# Altium schematic symbol library kmilo17pet-LT_PMIC_LT.SchLib: 2252 symbols (part 121 of 124)
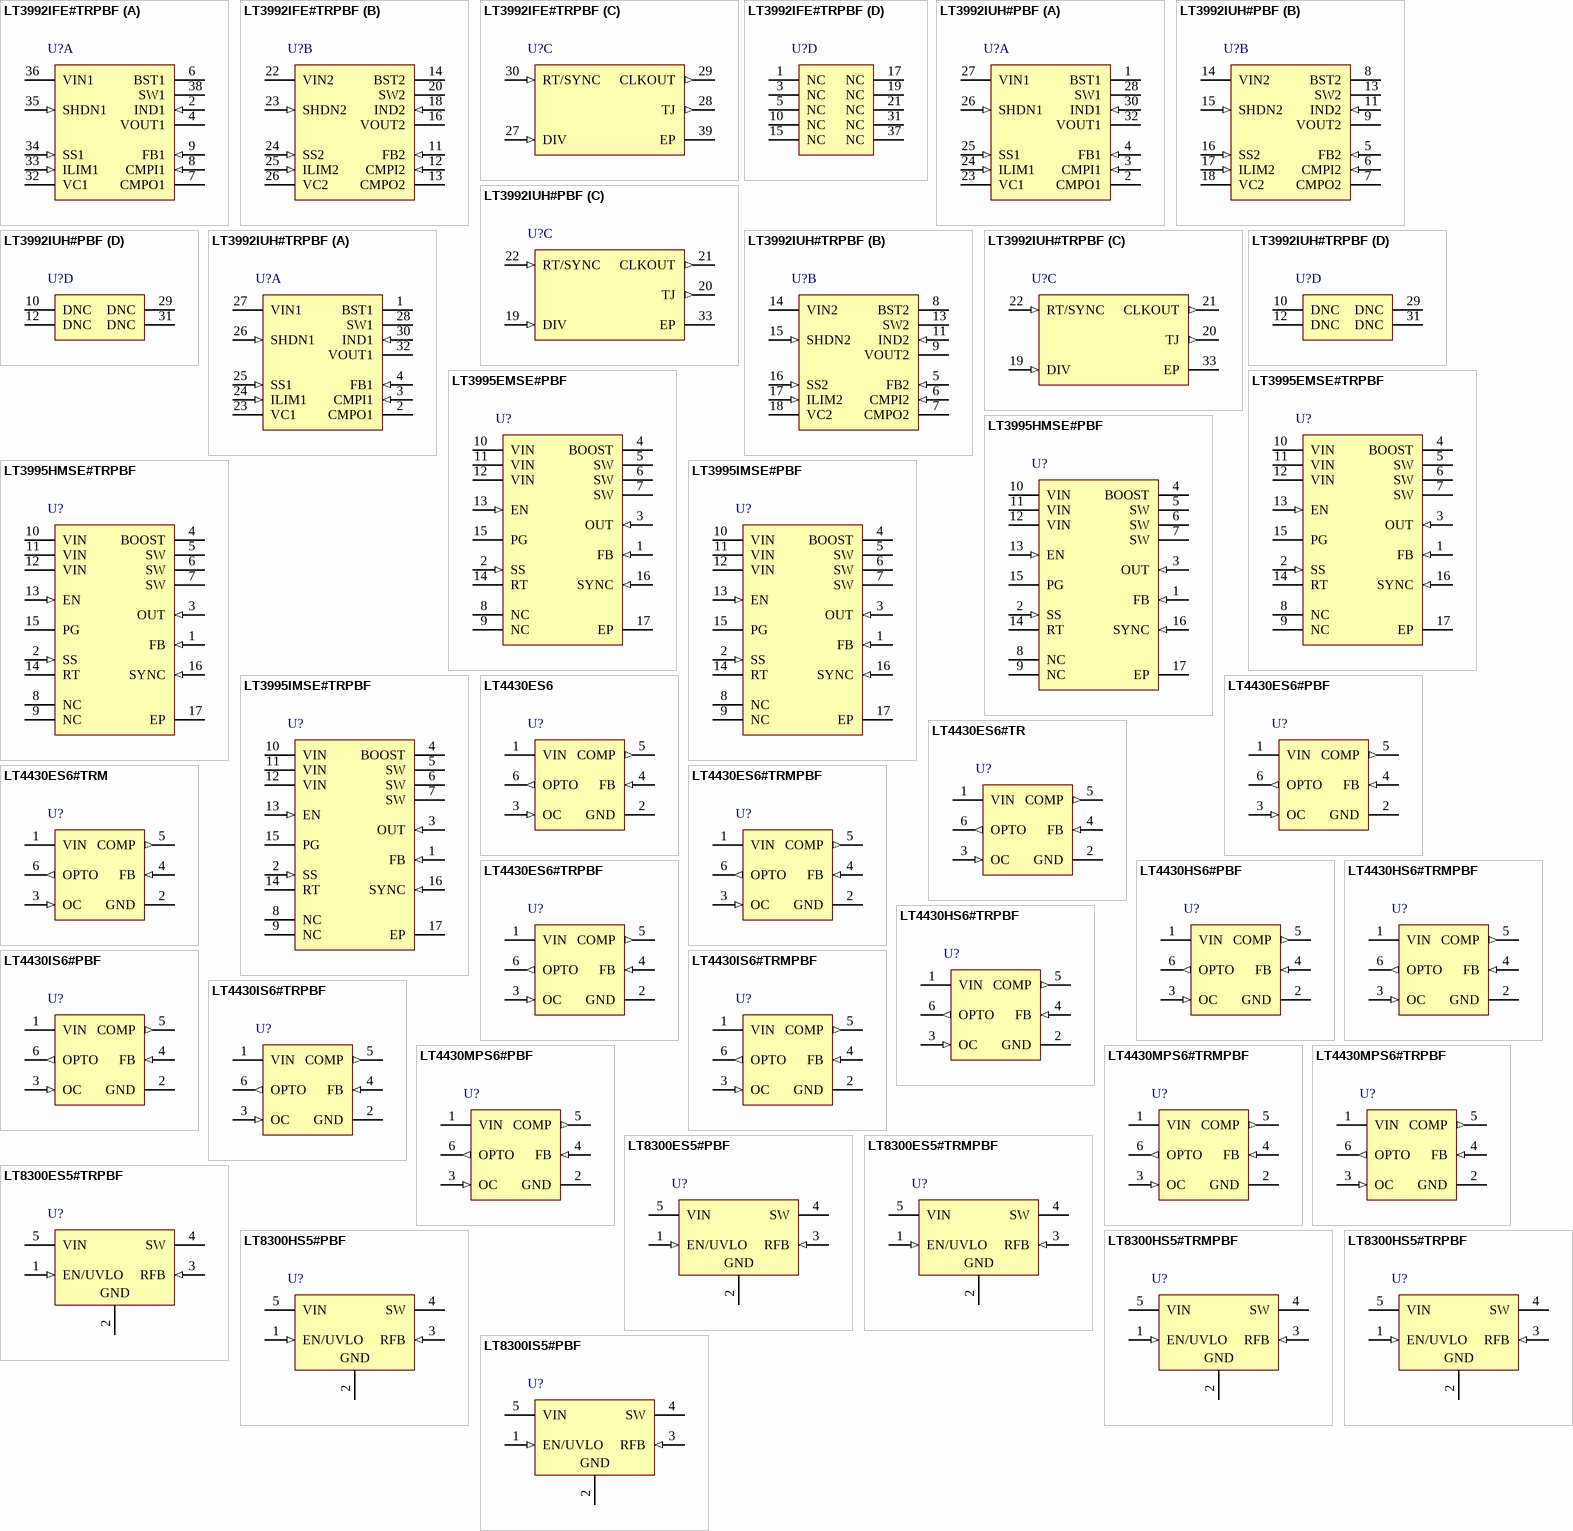
[diagram p191: symbols LT3992IFE#TRPBF to LT8300IS5#PBF]

## LT4430ES6#TRM
designator U?
Secondary-Side Optocoupler Driver, 6-pin SOT23 (S6-6), -40 to 125 degC, Mini Tape and Reel; Manufacturer: Linear Technology; PartNumber: LT4430ES6#TRM; Number of Outputs: 1; PackageReference: S6-6; PackageDescription: 6-Pin Plastic TSOT-23, Body 2.9 x 1.63 mm, Pitch 0.95 mm; RoHS: FALSE
footprint LT-S6-6-TSOT-23_N (SOT23, 6-Leads, Body 2.9x1.75mm, Pitch 0.95mm, IPC Medium Density)
footprint LT-S6-6-TSOT-23_L (SOT23, 6-Leads, Body 2.9x1.75mm, Pitch 0.95mm, IPC High Density)
footprint LT-S6-6-TSOT-23_M (SOT23, 6-Leads, Body 2.9x1.75mm, Pitch 0.95mm, IPC Low Density)
pins: 1 VIN (power) "This is the input supply that powers all internal circuitry. The input supply range is 3V minimum to 20V maximum and the typical input quiescent current is 1.9mA. Connect a 1uF bypass capacitor directly from VIN to GND.", 2 GND (power) "Analog Ground Pin. It is also the negative sense terminal for the internal 0.6V reference. Connect the external feedback divider network that terminates to ground directly to this pin for best regulation and performance.", 3 OC (in) "Overshoot Control Pin. A typical 8.5uA current source and a capacitor placed from this pin to GND controls output voltage overshoot on start-up and recovery from short-circuit. The typical ramp time is (COC ?.6V)/8.5uA(See Datasheet)", 4 FB (in) "This is the inverting input of the error amplifier. The noninverting input is tied to the internal 0.6V reference. Input bias current for this pin is typically 75nA flowing out of the pin. This pin normally ties to a (See Datasheet)", 5 COMP (out) "This is the output of the error amplifier. The error amplifier is a true voltage-mode error amplifier and frequency compensation is performed around the amplifier. Typical LT4430 compensation schemes use series R-C in (See Datasheet)", 6 OPTO (out) "This is the output of the amplifier that drives the opto-coupler. The opto driver amplifier uses an inverting gain of six configuration to drive the opto-coupler referenced to ground. Driving the opto-coupler referenced to (See Datasheet)"

## LT4430ES6#TRMPBF
designator U?
Secondary-Side Optocoupler Driver, 6-pin SOT23 (S6-6), -40 to 125 degC, Pb-Free, Mini Tape and Reel; Manufacturer: Linear Technology; PartNumber: LT4430ES6#TRMPBF; Number of Outputs: 1; PackageReference: S6-6; PackageDescription: 6-Pin Plastic TSOT-23, Body 2.9 x 1.63 mm, Pitch 0.95 mm; Supplier 1: Digi-Key; Supplier Part Number 1: LT4430ES6#TRMPBFTR-ND; RoHS: TRUE
footprint LT-S6-6-TSOT-23_N (SOT23, 6-Leads, Body 2.9x1.75mm, Pitch 0.95mm, IPC Medium Density)
footprint LT-S6-6-TSOT-23_L (SOT23, 6-Leads, Body 2.9x1.75mm, Pitch 0.95mm, IPC High Density)
footprint LT-S6-6-TSOT-23_M (SOT23, 6-Leads, Body 2.9x1.75mm, Pitch 0.95mm, IPC Low Density)
pins: 1 VIN (power) "This is the input supply that powers all internal circuitry. The input supply range is 3V minimum to 20V maximum and the typical input quiescent current is 1.9mA. Connect a 1uF bypass capacitor directly from VIN to GND.", 2 GND (power) "Analog Ground Pin. It is also the negative sense terminal for the internal 0.6V reference. Connect the external feedback divider network that terminates to ground directly to this pin for best regulation and performance.", 3 OC (in) "Overshoot Control Pin. A typical 8.5uA current source and a capacitor placed from this pin to GND controls output voltage overshoot on start-up and recovery from short-circuit. The typical ramp time is (COC ?.6V)/8.5uA(See Datasheet)", 4 FB (in) "This is the inverting input of the error amplifier. The noninverting input is tied to the internal 0.6V reference. Input bias current for this pin is typically 75nA flowing out of the pin. This pin normally ties to a (See Datasheet)", 5 COMP (out) "This is the output of the error amplifier. The error amplifier is a true voltage-mode error amplifier and frequency compensation is performed around the amplifier. Typical LT4430 compensation schemes use series R-C in (See Datasheet)", 6 OPTO (out) "This is the output of the amplifier that drives the opto-coupler. The opto driver amplifier uses an inverting gain of six configuration to drive the opto-coupler referenced to ground. Driving the opto-coupler referenced to (See Datasheet)"

## LT4430ES6#TRPBF
designator U?
Secondary-Side Optocoupler Driver, 6-pin SOT23 (S6-6), -40 to 125 degC, Pb-Free, Tape and Reel; Manufacturer: Linear Technology; PartNumber: LT4430ES6#TRPBF; Number of Outputs: 1; PackageReference: S6-6; PackageDescription: 6-Pin Plastic TSOT-23, Body 2.9 x 1.63 mm, Pitch 0.95 mm; Supplier 1: Digi-Key; Supplier Part Number 1: LT4430ES6#TRPBF-ND; RoHS: TRUE
footprint LT-S6-6-TSOT-23_N (SOT23, 6-Leads, Body 2.9x1.75mm, Pitch 0.95mm, IPC Medium Density)
footprint LT-S6-6-TSOT-23_L (SOT23, 6-Leads, Body 2.9x1.75mm, Pitch 0.95mm, IPC High Density)
footprint LT-S6-6-TSOT-23_M (SOT23, 6-Leads, Body 2.9x1.75mm, Pitch 0.95mm, IPC Low Density)
pins: 1 VIN (power) "This is the input supply that powers all internal circuitry. The input supply range is 3V minimum to 20V maximum and the typical input quiescent current is 1.9mA. Connect a 1uF bypass capacitor directly from VIN to GND.", 2 GND (power) "Analog Ground Pin. It is also the negative sense terminal for the internal 0.6V reference. Connect the external feedback divider network that terminates to ground directly to this pin for best regulation and performance.", 3 OC (in) "Overshoot Control Pin. A typical 8.5uA current source and a capacitor placed from this pin to GND controls output voltage overshoot on start-up and recovery from short-circuit. The typical ramp time is (COC ?.6V)/8.5uA(See Datasheet)", 4 FB (in) "This is the inverting input of the error amplifier. The noninverting input is tied to the internal 0.6V reference. Input bias current for this pin is typically 75nA flowing out of the pin. This pin normally ties to a (See Datasheet)", 5 COMP (out) "This is the output of the error amplifier. The error amplifier is a true voltage-mode error amplifier and frequency compensation is performed around the amplifier. Typical LT4430 compensation schemes use series R-C in (See Datasheet)", 6 OPTO (out) "This is the output of the amplifier that drives the opto-coupler. The opto driver amplifier uses an inverting gain of six configuration to drive the opto-coupler referenced to ground. Driving the opto-coupler referenced to (See Datasheet)"

## LT4430HS6#PBF
designator U?
Secondary-Side Optocoupler Driver, 6-pin SOT23 (S6-6), -40 to 150 degC, Pb-Free; Manufacturer: Linear Technology; PartNumber: LT4430HS6#PBF; Number of Outputs: 1; PackageReference: S6-6; PackageDescription: 6-Pin Plastic TSOT-23, Body 2.9 x 1.63 mm, Pitch 0.95 mm; RoHS: TRUE
footprint LT-S6-6-TSOT-23_N (SOT23, 6-Leads, Body 2.9x1.75mm, Pitch 0.95mm, IPC Medium Density)
footprint LT-S6-6-TSOT-23_L (SOT23, 6-Leads, Body 2.9x1.75mm, Pitch 0.95mm, IPC High Density)
footprint LT-S6-6-TSOT-23_M (SOT23, 6-Leads, Body 2.9x1.75mm, Pitch 0.95mm, IPC Low Density)
pins: 1 VIN (power) "This is the input supply that powers all internal circuitry. The input supply range is 3V minimum to 20V maximum and the typical input quiescent current is 1.9mA. Connect a 1uF bypass capacitor directly from VIN to GND.", 2 GND (power) "Analog Ground Pin. It is also the negative sense terminal for the internal 0.6V reference. Connect the external feedback divider network that terminates to ground directly to this pin for best regulation and performance.", 3 OC (in) "Overshoot Control Pin. A typical 8.5uA current source and a capacitor placed from this pin to GND controls output voltage overshoot on start-up and recovery from short-circuit. The typical ramp time is (COC ?.6V)/8.5uA(See Datasheet)", 4 FB (in) "This is the inverting input of the error amplifier. The noninverting input is tied to the internal 0.6V reference. Input bias current for this pin is typically 75nA flowing out of the pin. This pin normally ties to a (See Datasheet)", 5 COMP (out) "This is the output of the error amplifier. The error amplifier is a true voltage-mode error amplifier and frequency compensation is performed around the amplifier. Typical LT4430 compensation schemes use series R-C in (See Datasheet)", 6 OPTO (out) "This is the output of the amplifier that drives the opto-coupler. The opto driver amplifier uses an inverting gain of six configuration to drive the opto-coupler referenced to ground. Driving the opto-coupler referenced to (See Datasheet)"

## LT4430HS6#TRMPBF
designator U?
Secondary-Side Optocoupler Driver, 6-pin SOT23 (S6-6), -40 to 150 degC, Pb-Free, Mini Tape and Reel; Manufacturer: Linear Technology; PartNumber: LT4430HS6#TRMPBF; Number of Outputs: 1; PackageReference: S6-6; PackageDescription: 6-Pin Plastic TSOT-23, Body 2.9 x 1.63 mm, Pitch 0.95 mm; Supplier 1: Digi-Key; Supplier Part Number 1: LT4430HS6#TRMPBF-ND; RoHS: TRUE
footprint LT-S6-6-TSOT-23_N (SOT23, 6-Leads, Body 2.9x1.75mm, Pitch 0.95mm, IPC Medium Density)
footprint LT-S6-6-TSOT-23_L (SOT23, 6-Leads, Body 2.9x1.75mm, Pitch 0.95mm, IPC High Density)
footprint LT-S6-6-TSOT-23_M (SOT23, 6-Leads, Body 2.9x1.75mm, Pitch 0.95mm, IPC Low Density)
pins: 1 VIN (power) "This is the input supply that powers all internal circuitry. The input supply range is 3V minimum to 20V maximum and the typical input quiescent current is 1.9mA. Connect a 1uF bypass capacitor directly from VIN to GND.", 2 GND (power) "Analog Ground Pin. It is also the negative sense terminal for the internal 0.6V reference. Connect the external feedback divider network that terminates to ground directly to this pin for best regulation and performance.", 3 OC (in) "Overshoot Control Pin. A typical 8.5uA current source and a capacitor placed from this pin to GND controls output voltage overshoot on start-up and recovery from short-circuit. The typical ramp time is (COC ?.6V)/8.5uA(See Datasheet)", 4 FB (in) "This is the inverting input of the error amplifier. The noninverting input is tied to the internal 0.6V reference. Input bias current for this pin is typically 75nA flowing out of the pin. This pin normally ties to a (See Datasheet)", 5 COMP (out) "This is the output of the error amplifier. The error amplifier is a true voltage-mode error amplifier and frequency compensation is performed around the amplifier. Typical LT4430 compensation schemes use series R-C in (See Datasheet)", 6 OPTO (out) "This is the output of the amplifier that drives the opto-coupler. The opto driver amplifier uses an inverting gain of six configuration to drive the opto-coupler referenced to ground. Driving the opto-coupler referenced to (See Datasheet)"

## LT4430HS6#TRPBF
designator U?
Secondary-Side Optocoupler Driver, 6-pin SOT23 (S6-6), -40 to 150 degC, Pb-Free, Tape and Reel; Manufacturer: Linear Technology; PartNumber: LT4430HS6#TRPBF; Number of Outputs: 1; PackageReference: S6-6; PackageDescription: 6-Pin Plastic TSOT-23, Body 2.9 x 1.63 mm, Pitch 0.95 mm; Supplier 1: Digi-Key; Supplier Part Number 1: LT4430HS6#TRPBF-ND; RoHS: TRUE
footprint LT-S6-6-TSOT-23_N (SOT23, 6-Leads, Body 2.9x1.75mm, Pitch 0.95mm, IPC Medium Density)
footprint LT-S6-6-TSOT-23_L (SOT23, 6-Leads, Body 2.9x1.75mm, Pitch 0.95mm, IPC High Density)
footprint LT-S6-6-TSOT-23_M (SOT23, 6-Leads, Body 2.9x1.75mm, Pitch 0.95mm, IPC Low Density)
pins: 1 VIN (power) "This is the input supply that powers all internal circuitry. The input supply range is 3V minimum to 20V maximum and the typical input quiescent current is 1.9mA. Connect a 1uF bypass capacitor directly from VIN to GND.", 2 GND (power) "Analog Ground Pin. It is also the negative sense terminal for the internal 0.6V reference. Connect the external feedback divider network that terminates to ground directly to this pin for best regulation and performance.", 3 OC (in) "Overshoot Control Pin. A typical 8.5uA current source and a capacitor placed from this pin to GND controls output voltage overshoot on start-up and recovery from short-circuit. The typical ramp time is (COC ?.6V)/8.5uA(See Datasheet)", 4 FB (in) "This is the inverting input of the error amplifier. The noninverting input is tied to the internal 0.6V reference. Input bias current for this pin is typically 75nA flowing out of the pin. This pin normally ties to a (See Datasheet)", 5 COMP (out) "This is the output of the error amplifier. The error amplifier is a true voltage-mode error amplifier and frequency compensation is performed around the amplifier. Typical LT4430 compensation schemes use series R-C in (See Datasheet)", 6 OPTO (out) "This is the output of the amplifier that drives the opto-coupler. The opto driver amplifier uses an inverting gain of six configuration to drive the opto-coupler referenced to ground. Driving the opto-coupler referenced to (See Datasheet)"

## LT4430IS6#PBF
designator U?
Secondary-Side Optocoupler Driver, 6-pin SOT23 (S6-6), -40 to 125 degC, Pb-Free; Manufacturer: Linear Technology; PartNumber: LT4430IS6#PBF; Number of Outputs: 1; PackageReference: S6-6; PackageDescription: 6-Pin Plastic TSOT-23, Body 2.9 x 1.63 mm, Pitch 0.95 mm; Supplier 1: Newark; Supplier Part Number 1: 78T4112; RoHS: TRUE
footprint LT-S6-6-TSOT-23_N (SOT23, 6-Leads, Body 2.9x1.75mm, Pitch 0.95mm, IPC Medium Density)
footprint LT-S6-6-TSOT-23_L (SOT23, 6-Leads, Body 2.9x1.75mm, Pitch 0.95mm, IPC High Density)
footprint LT-S6-6-TSOT-23_M (SOT23, 6-Leads, Body 2.9x1.75mm, Pitch 0.95mm, IPC Low Density)
pins: 1 VIN (power) "This is the input supply that powers all internal circuitry. The input supply range is 3V minimum to 20V maximum and the typical input quiescent current is 1.9mA. Connect a 1uF bypass capacitor directly from VIN to GND.", 2 GND (power) "Analog Ground Pin. It is also the negative sense terminal for the internal 0.6V reference. Connect the external feedback divider network that terminates to ground directly to this pin for best regulation and performance.", 3 OC (in) "Overshoot Control Pin. A typical 8.5uA current source and a capacitor placed from this pin to GND controls output voltage overshoot on start-up and recovery from short-circuit. The typical ramp time is (COC ?.6V)/8.5uA(See Datasheet)", 4 FB (in) "This is the inverting input of the error amplifier. The noninverting input is tied to the internal 0.6V reference. Input bias current for this pin is typically 75nA flowing out of the pin. This pin normally ties to a (See Datasheet)", 5 COMP (out) "This is the output of the error amplifier. The error amplifier is a true voltage-mode error amplifier and frequency compensation is performed around the amplifier. Typical LT4430 compensation schemes use series R-C in (See Datasheet)", 6 OPTO (out) "This is the output of the amplifier that drives the opto-coupler. The opto driver amplifier uses an inverting gain of six configuration to drive the opto-coupler referenced to ground. Driving the opto-coupler referenced to (See Datasheet)"

## LT4430IS6#TRMPBF
designator U?
Secondary-Side Optocoupler Driver, 6-pin SOT23 (S6-6), -40 to 125 degC, Pb-Free, Mini Tape and Reel; Manufacturer: Linear Technology; PartNumber: LT4430IS6#TRMPBF; Number of Outputs: 1; PackageReference: S6-6; PackageDescription: 6-Pin Plastic TSOT-23, Body 2.9 x 1.63 mm, Pitch 0.95 mm; Supplier 1: Digi-Key; Supplier Part Number 1: LT4430IS6#TRMPBF-ND; RoHS: TRUE
footprint LT-S6-6-TSOT-23_N (SOT23, 6-Leads, Body 2.9x1.75mm, Pitch 0.95mm, IPC Medium Density)
footprint LT-S6-6-TSOT-23_L (SOT23, 6-Leads, Body 2.9x1.75mm, Pitch 0.95mm, IPC High Density)
footprint LT-S6-6-TSOT-23_M (SOT23, 6-Leads, Body 2.9x1.75mm, Pitch 0.95mm, IPC Low Density)
pins: 1 VIN (power) "This is the input supply that powers all internal circuitry. The input supply range is 3V minimum to 20V maximum and the typical input quiescent current is 1.9mA. Connect a 1uF bypass capacitor directly from VIN to GND.", 2 GND (power) "Analog Ground Pin. It is also the negative sense terminal for the internal 0.6V reference. Connect the external feedback divider network that terminates to ground directly to this pin for best regulation and performance.", 3 OC (in) "Overshoot Control Pin. A typical 8.5uA current source and a capacitor placed from this pin to GND controls output voltage overshoot on start-up and recovery from short-circuit. The typical ramp time is (COC ?.6V)/8.5uA(See Datasheet)", 4 FB (in) "This is the inverting input of the error amplifier. The noninverting input is tied to the internal 0.6V reference. Input bias current for this pin is typically 75nA flowing out of the pin. This pin normally ties to a (See Datasheet)", 5 COMP (out) "This is the output of the error amplifier. The error amplifier is a true voltage-mode error amplifier and frequency compensation is performed around the amplifier. Typical LT4430 compensation schemes use series R-C in (See Datasheet)", 6 OPTO (out) "This is the output of the amplifier that drives the opto-coupler. The opto driver amplifier uses an inverting gain of six configuration to drive the opto-coupler referenced to ground. Driving the opto-coupler referenced to (See Datasheet)"

## LT4430IS6#TRPBF
designator U?
Secondary-Side Optocoupler Driver, 6-pin SOT23 (S6-6), -40 to 125 degC, Pb-Free, Tape and Reel; Manufacturer: Linear Technology; PartNumber: LT4430IS6#TRPBF; Number of Outputs: 1; PackageReference: S6-6; PackageDescription: 6-Pin Plastic TSOT-23, Body 2.9 x 1.63 mm, Pitch 0.95 mm; Supplier 1: Digi-Key; Supplier Part Number 1: LT4430IS6#TRPBF-ND; RoHS: TRUE
footprint LT-S6-6-TSOT-23_N (SOT23, 6-Leads, Body 2.9x1.75mm, Pitch 0.95mm, IPC Medium Density)
footprint LT-S6-6-TSOT-23_L (SOT23, 6-Leads, Body 2.9x1.75mm, Pitch 0.95mm, IPC High Density)
footprint LT-S6-6-TSOT-23_M (SOT23, 6-Leads, Body 2.9x1.75mm, Pitch 0.95mm, IPC Low Density)
pins: 1 VIN (power) "This is the input supply that powers all internal circuitry. The input supply range is 3V minimum to 20V maximum and the typical input quiescent current is 1.9mA. Connect a 1uF bypass capacitor directly from VIN to GND.", 2 GND (power) "Analog Ground Pin. It is also the negative sense terminal for the internal 0.6V reference. Connect the external feedback divider network that terminates to ground directly to this pin for best regulation and performance.", 3 OC (in) "Overshoot Control Pin. A typical 8.5uA current source and a capacitor placed from this pin to GND controls output voltage overshoot on start-up and recovery from short-circuit. The typical ramp time is (COC ?.6V)/8.5uA(See Datasheet)", 4 FB (in) "This is the inverting input of the error amplifier. The noninverting input is tied to the internal 0.6V reference. Input bias current for this pin is typically 75nA flowing out of the pin. This pin normally ties to a (See Datasheet)", 5 COMP (out) "This is the output of the error amplifier. The error amplifier is a true voltage-mode error amplifier and frequency compensation is performed around the amplifier. Typical LT4430 compensation schemes use series R-C in (See Datasheet)", 6 OPTO (out) "This is the output of the amplifier that drives the opto-coupler. The opto driver amplifier uses an inverting gain of six configuration to drive the opto-coupler referenced to ground. Driving the opto-coupler referenced to (See Datasheet)"

## LT4430MPS6#PBF
designator U?
Secondary-Side Optocoupler Driver, 6-pin SOT23 (S6-6), -55 to 150 degC, Pb-Free; Manufacturer: Linear Technology; PartNumber: LT4430MPS6#PBF; Number of Outputs: 1; PackageReference: S6-6; PackageDescription: 6-Pin Plastic TSOT-23, Body 2.9 x 1.63 mm, Pitch 0.95 mm; RoHS: TRUE
footprint LT-S6-6-TSOT-23_N (SOT23, 6-Leads, Body 2.9x1.75mm, Pitch 0.95mm, IPC Medium Density)
footprint LT-S6-6-TSOT-23_L (SOT23, 6-Leads, Body 2.9x1.75mm, Pitch 0.95mm, IPC High Density)
footprint LT-S6-6-TSOT-23_M (SOT23, 6-Leads, Body 2.9x1.75mm, Pitch 0.95mm, IPC Low Density)
pins: 1 VIN (power) "This is the input supply that powers all internal circuitry. The input supply range is 3V minimum to 20V maximum and the typical input quiescent current is 1.9mA. Connect a 1uF bypass capacitor directly from VIN to GND.", 2 GND (power) "Analog Ground Pin. It is also the negative sense terminal for the internal 0.6V reference. Connect the external feedback divider network that terminates to ground directly to this pin for best regulation and performance.", 3 OC (in) "Overshoot Control Pin. A typical 8.5uA current source and a capacitor placed from this pin to GND controls output voltage overshoot on start-up and recovery from short-circuit. The typical ramp time is (COC ?.6V)/8.5uA(See Datasheet)", 4 FB (in) "This is the inverting input of the error amplifier. The noninverting input is tied to the internal 0.6V reference. Input bias current for this pin is typically 75nA flowing out of the pin. This pin normally ties to a (See Datasheet)", 5 COMP (out) "This is the output of the error amplifier. The error amplifier is a true voltage-mode error amplifier and frequency compensation is performed around the amplifier. Typical LT4430 compensation schemes use series R-C in (See Datasheet)", 6 OPTO (out) "This is the output of the amplifier that drives the opto-coupler. The opto driver amplifier uses an inverting gain of six configuration to drive the opto-coupler referenced to ground. Driving the opto-coupler referenced to (See Datasheet)"

## LT4430MPS6#TRMPBF
designator U?
Secondary-Side Optocoupler Driver, 6-pin SOT23 (S6-6), -55 to 150 degC, Pb-Free, Mini Tape and Reel; Manufacturer: Linear Technology; PartNumber: LT4430MPS6#TRMPBF; Number of Outputs: 1; PackageReference: S6-6; PackageDescription: 6-Pin Plastic TSOT-23, Body 2.9 x 1.63 mm, Pitch 0.95 mm; Supplier 1: Digi-Key; Supplier Part Number 1: LT4430MPS6#TRMPBF-ND; RoHS: TRUE
footprint LT-S6-6-TSOT-23_N (SOT23, 6-Leads, Body 2.9x1.75mm, Pitch 0.95mm, IPC Medium Density)
footprint LT-S6-6-TSOT-23_L (SOT23, 6-Leads, Body 2.9x1.75mm, Pitch 0.95mm, IPC High Density)
footprint LT-S6-6-TSOT-23_M (SOT23, 6-Leads, Body 2.9x1.75mm, Pitch 0.95mm, IPC Low Density)
pins: 1 VIN (power) "This is the input supply that powers all internal circuitry. The input supply range is 3V minimum to 20V maximum and the typical input quiescent current is 1.9mA. Connect a 1uF bypass capacitor directly from VIN to GND.", 2 GND (power) "Analog Ground Pin. It is also the negative sense terminal for the internal 0.6V reference. Connect the external feedback divider network that terminates to ground directly to this pin for best regulation and performance.", 3 OC (in) "Overshoot Control Pin. A typical 8.5uA current source and a capacitor placed from this pin to GND controls output voltage overshoot on start-up and recovery from short-circuit. The typical ramp time is (COC ?.6V)/8.5uA(See Datasheet)", 4 FB (in) "This is the inverting input of the error amplifier. The noninverting input is tied to the internal 0.6V reference. Input bias current for this pin is typically 75nA flowing out of the pin. This pin normally ties to a (See Datasheet)", 5 COMP (out) "This is the output of the error amplifier. The error amplifier is a true voltage-mode error amplifier and frequency compensation is performed around the amplifier. Typical LT4430 compensation schemes use series R-C in (See Datasheet)", 6 OPTO (out) "This is the output of the amplifier that drives the opto-coupler. The opto driver amplifier uses an inverting gain of six configuration to drive the opto-coupler referenced to ground. Driving the opto-coupler referenced to (See Datasheet)"

## LT4430MPS6#TRPBF
designator U?
Secondary-Side Optocoupler Driver, 6-pin SOT23 (S6-6), -55 to 150 degC, Pb-Free, Tape and Reel; Manufacturer: Linear Technology; PartNumber: LT4430MPS6#TRPBF; Number of Outputs: 1; PackageReference: S6-6; PackageDescription: 6-Pin Plastic TSOT-23, Body 2.9 x 1.63 mm, Pitch 0.95 mm; Supplier 1: Digi-Key; Supplier Part Number 1: LT4430MPS6#TRPBF-ND; RoHS: TRUE
footprint LT-S6-6-TSOT-23_N (SOT23, 6-Leads, Body 2.9x1.75mm, Pitch 0.95mm, IPC Medium Density)
footprint LT-S6-6-TSOT-23_L (SOT23, 6-Leads, Body 2.9x1.75mm, Pitch 0.95mm, IPC High Density)
footprint LT-S6-6-TSOT-23_M (SOT23, 6-Leads, Body 2.9x1.75mm, Pitch 0.95mm, IPC Low Density)
pins: 1 VIN (power) "This is the input supply that powers all internal circuitry. The input supply range is 3V minimum to 20V maximum and the typical input quiescent current is 1.9mA. Connect a 1uF bypass capacitor directly from VIN to GND.", 2 GND (power) "Analog Ground Pin. It is also the negative sense terminal for the internal 0.6V reference. Connect the external feedback divider network that terminates to ground directly to this pin for best regulation and performance.", 3 OC (in) "Overshoot Control Pin. A typical 8.5uA current source and a capacitor placed from this pin to GND controls output voltage overshoot on start-up and recovery from short-circuit. The typical ramp time is (COC ?.6V)/8.5uA(See Datasheet)", 4 FB (in) "This is the inverting input of the error amplifier. The noninverting input is tied to the internal 0.6V reference. Input bias current for this pin is typically 75nA flowing out of the pin. This pin normally ties to a (See Datasheet)", 5 COMP (out) "This is the output of the error amplifier. The error amplifier is a true voltage-mode error amplifier and frequency compensation is performed around the amplifier. Typical LT4430 compensation schemes use series R-C in (See Datasheet)", 6 OPTO (out) "This is the output of the amplifier that drives the opto-coupler. The opto driver amplifier uses an inverting gain of six configuration to drive the opto-coupler referenced to ground. Driving the opto-coupler referenced to (See Datasheet)"

## LT8300ES5#PBF
designator U?
Micropower Isolated Flyback Converter with 150 V / 260 mA Switch, 5-pin SOT23 (S5-5), -40 to 125 degC, Pb-Free; Manufacturer: Linear Technology; PartNumber: LT8300ES5#PBF; Number of Outputs: 1; PackageReference: S5-5; PackageDescription: 5-Pin Plastic TSOT-23, Body 1.63 x 2.90 mm, Pitch 0.95 mm; RoHS: TRUE
footprint LT-S5-5-TSOT-23_N (SOT23, 5-Leads, Body 2.90x1.63mm, Pitch 0.95mm, IPC Medium Density)
footprint LT-S5-5-TSOT-23_L (SOT23, 5-Leads, Body 2.90x1.63mm, Pitch 0.95mm, IPC High Density)
footprint LT-S5-5-TSOT-23_M (SOT23, 5-Leads, Body 2.90x1.63mm, Pitch 0.95mm, IPC Low Density)
pins: 1 EN/UVLO (in) "Enable/Undervoltage Lockout. The EN/UVLO pin is used to enable the LT8300. Pull the pin below 0.3V to shut down the LT8300. This pin has an accurate 1.223V threshold and can be used to program a VIN undervoltage lockout (See Datasheet)", 2 GND (power) "Ground. Tie this pin directly to local ground plane.", 3 RFB (in) "Input Pin for External Feedback Resistor. Connect a resistor from this pin to the transformer primary SW pin. The ratio of the RFB resistor to the internal trimmed 12.23k resistor, times the internal bandgap reference, (See Datasheet)", 4 SW (power) "Drain of the 150V Internal DMOS Power Switch. Minimize trace area at this pin to reduce EMI and voltage spikes.", 5 VIN (power) "Input Supply. The VIN pin supplies current to internal circuitry and serves as a reference voltage for the feedback circuitry connected to the RFB pin. Locally bypass this pin to ground with a capacitor."

## LT8300ES5#TRMPBF
designator U?
Micropower Isolated Flyback Converter with 150 V / 260 mA Switch, 5-pin SOT23 (S5-5), -40 to 125 degC, Pb-Free, Mini Tape and Reel; Manufacturer: Linear Technology; PartNumber: LT8300ES5#TRMPBF; Number of Outputs: 1; PackageReference: S5-5; PackageDescription: 5-Pin Plastic TSOT-23, Body 1.63 x 2.90 mm, Pitch 0.95 mm; Supplier 1: Digi-Key; Supplier Part Number 1: LT8300ES5#TRMPBFTR-ND; RoHS: TRUE
footprint LT-S5-5-TSOT-23_N (SOT23, 5-Leads, Body 2.90x1.63mm, Pitch 0.95mm, IPC Medium Density)
footprint LT-S5-5-TSOT-23_L (SOT23, 5-Leads, Body 2.90x1.63mm, Pitch 0.95mm, IPC High Density)
footprint LT-S5-5-TSOT-23_M (SOT23, 5-Leads, Body 2.90x1.63mm, Pitch 0.95mm, IPC Low Density)
pins: 1 EN/UVLO (in) "Enable/Undervoltage Lockout. The EN/UVLO pin is used to enable the LT8300. Pull the pin below 0.3V to shut down the LT8300. This pin has an accurate 1.223V threshold and can be used to program a VIN undervoltage lockout (See Datasheet)", 2 GND (power) "Ground. Tie this pin directly to local ground plane.", 3 RFB (in) "Input Pin for External Feedback Resistor. Connect a resistor from this pin to the transformer primary SW pin. The ratio of the RFB resistor to the internal trimmed 12.23k resistor, times the internal bandgap reference, (See Datasheet)", 4 SW (power) "Drain of the 150V Internal DMOS Power Switch. Minimize trace area at this pin to reduce EMI and voltage spikes.", 5 VIN (power) "Input Supply. The VIN pin supplies current to internal circuitry and serves as a reference voltage for the feedback circuitry connected to the RFB pin. Locally bypass this pin to ground with a capacitor."

## LT8300ES5#TRPBF
designator U?
Micropower Isolated Flyback Converter with 150 V / 260 mA Switch, 5-pin SOT23 (S5-5), -40 to 125 degC, Pb-Free, Tape and Reel; Manufacturer: Linear Technology; PartNumber: LT8300ES5#TRPBF; Number of Outputs: 1; PackageReference: S5-5; PackageDescription: 5-Pin Plastic TSOT-23, Body 1.63 x 2.90 mm, Pitch 0.95 mm; Supplier 1: Digi-Key; Supplier Part Number 1: LT8300ES5#TRPBF-ND; RoHS: TRUE
footprint LT-S5-5-TSOT-23_N (SOT23, 5-Leads, Body 2.90x1.63mm, Pitch 0.95mm, IPC Medium Density)
footprint LT-S5-5-TSOT-23_L (SOT23, 5-Leads, Body 2.90x1.63mm, Pitch 0.95mm, IPC High Density)
footprint LT-S5-5-TSOT-23_M (SOT23, 5-Leads, Body 2.90x1.63mm, Pitch 0.95mm, IPC Low Density)
pins: 1 EN/UVLO (in) "Enable/Undervoltage Lockout. The EN/UVLO pin is used to enable the LT8300. Pull the pin below 0.3V to shut down the LT8300. This pin has an accurate 1.223V threshold and can be used to program a VIN undervoltage lockout (See Datasheet)", 2 GND (power) "Ground. Tie this pin directly to local ground plane.", 3 RFB (in) "Input Pin for External Feedback Resistor. Connect a resistor from this pin to the transformer primary SW pin. The ratio of the RFB resistor to the internal trimmed 12.23k resistor, times the internal bandgap reference, (See Datasheet)", 4 SW (power) "Drain of the 150V Internal DMOS Power Switch. Minimize trace area at this pin to reduce EMI and voltage spikes.", 5 VIN (power) "Input Supply. The VIN pin supplies current to internal circuitry and serves as a reference voltage for the feedback circuitry connected to the RFB pin. Locally bypass this pin to ground with a capacitor."

## LT8300HS5#PBF
designator U?
Micropower Isolated Flyback Converter with 150 V / 260 mA Switch, 5-pin SOT23 (S5-5), -40 to 150 degC, Pb-Free; Manufacturer: Linear Technology; PartNumber: LT8300HS5#PBF; Number of Outputs: 1; PackageReference: S5-5; PackageDescription: 5-Pin Plastic TSOT-23, Body 1.63 x 2.90 mm, Pitch 0.95 mm; RoHS: TRUE
footprint LT-S5-5-TSOT-23_N (SOT23, 5-Leads, Body 2.90x1.63mm, Pitch 0.95mm, IPC Medium Density)
footprint LT-S5-5-TSOT-23_L (SOT23, 5-Leads, Body 2.90x1.63mm, Pitch 0.95mm, IPC High Density)
footprint LT-S5-5-TSOT-23_M (SOT23, 5-Leads, Body 2.90x1.63mm, Pitch 0.95mm, IPC Low Density)
pins: 1 EN/UVLO (in) "Enable/Undervoltage Lockout. The EN/UVLO pin is used to enable the LT8300. Pull the pin below 0.3V to shut down the LT8300. This pin has an accurate 1.223V threshold and can be used to program a VIN undervoltage lockout (See Datasheet)", 2 GND (power) "Ground. Tie this pin directly to local ground plane.", 3 RFB (in) "Input Pin for External Feedback Resistor. Connect a resistor from this pin to the transformer primary SW pin. The ratio of the RFB resistor to the internal trimmed 12.23k resistor, times the internal bandgap reference, (See Datasheet)", 4 SW (power) "Drain of the 150V Internal DMOS Power Switch. Minimize trace area at this pin to reduce EMI and voltage spikes.", 5 VIN (power) "Input Supply. The VIN pin supplies current to internal circuitry and serves as a reference voltage for the feedback circuitry connected to the RFB pin. Locally bypass this pin to ground with a capacitor."

## LT8300HS5#TRMPBF
designator U?
Micropower Isolated Flyback Converter with 150 V / 260 mA Switch, 5-pin SOT23 (S5-5), -40 to 150 degC, Pb-Free, Mini Tape and Reel; Manufacturer: Linear Technology; PartNumber: LT8300HS5#TRMPBF; Number of Outputs: 1; PackageReference: S5-5; PackageDescription: 5-Pin Plastic TSOT-23, Body 1.63 x 2.90 mm, Pitch 0.95 mm; Supplier 1: Digi-Key; Supplier Part Number 1: LT8300HS5#TRMPBFTR-ND; RoHS: TRUE
footprint LT-S5-5-TSOT-23_N (SOT23, 5-Leads, Body 2.90x1.63mm, Pitch 0.95mm, IPC Medium Density)
footprint LT-S5-5-TSOT-23_L (SOT23, 5-Leads, Body 2.90x1.63mm, Pitch 0.95mm, IPC High Density)
footprint LT-S5-5-TSOT-23_M (SOT23, 5-Leads, Body 2.90x1.63mm, Pitch 0.95mm, IPC Low Density)
pins: 1 EN/UVLO (in) "Enable/Undervoltage Lockout. The EN/UVLO pin is used to enable the LT8300. Pull the pin below 0.3V to shut down the LT8300. This pin has an accurate 1.223V threshold and can be used to program a VIN undervoltage lockout (See Datasheet)", 2 GND (power) "Ground. Tie this pin directly to local ground plane.", 3 RFB (in) "Input Pin for External Feedback Resistor. Connect a resistor from this pin to the transformer primary SW pin. The ratio of the RFB resistor to the internal trimmed 12.23k resistor, times the internal bandgap reference, (See Datasheet)", 4 SW (power) "Drain of the 150V Internal DMOS Power Switch. Minimize trace area at this pin to reduce EMI and voltage spikes.", 5 VIN (power) "Input Supply. The VIN pin supplies current to internal circuitry and serves as a reference voltage for the feedback circuitry connected to the RFB pin. Locally bypass this pin to ground with a capacitor."

## LT8300HS5#TRPBF
designator U?
Micropower Isolated Flyback Converter with 150 V / 260 mA Switch, 5-pin SOT23 (S5-5), -40 to 150 degC, Pb-Free, Tape and Reel; Manufacturer: Linear Technology; PartNumber: LT8300HS5#TRPBF; Number of Outputs: 1; PackageReference: S5-5; PackageDescription: 5-Pin Plastic TSOT-23, Body 1.63 x 2.90 mm, Pitch 0.95 mm; Supplier 1: Digi-Key; Supplier Part Number 1: LT8300HS5#TRPBF-ND; RoHS: TRUE
footprint LT-S5-5-TSOT-23_N (SOT23, 5-Leads, Body 2.90x1.63mm, Pitch 0.95mm, IPC Medium Density)
footprint LT-S5-5-TSOT-23_L (SOT23, 5-Leads, Body 2.90x1.63mm, Pitch 0.95mm, IPC High Density)
footprint LT-S5-5-TSOT-23_M (SOT23, 5-Leads, Body 2.90x1.63mm, Pitch 0.95mm, IPC Low Density)
pins: 1 EN/UVLO (in) "Enable/Undervoltage Lockout. The EN/UVLO pin is used to enable the LT8300. Pull the pin below 0.3V to shut down the LT8300. This pin has an accurate 1.223V threshold and can be used to program a VIN undervoltage lockout (See Datasheet)", 2 GND (power) "Ground. Tie this pin directly to local ground plane.", 3 RFB (in) "Input Pin for External Feedback Resistor. Connect a resistor from this pin to the transformer primary SW pin. The ratio of the RFB resistor to the internal trimmed 12.23k resistor, times the internal bandgap reference, (See Datasheet)", 4 SW (power) "Drain of the 150V Internal DMOS Power Switch. Minimize trace area at this pin to reduce EMI and voltage spikes.", 5 VIN (power) "Input Supply. The VIN pin supplies current to internal circuitry and serves as a reference voltage for the feedback circuitry connected to the RFB pin. Locally bypass this pin to ground with a capacitor."

## LT8300IS5#PBF
designator U?
Micropower Isolated Flyback Converter with 150 V / 260 mA Switch, 5-pin SOT23 (S5-5), -40 to 125 degC, Pb-Free; Manufacturer: Linear Technology; PartNumber: LT8300IS5#PBF; Number of Outputs: 1; PackageReference: S5-5; PackageDescription: 5-Pin Plastic TSOT-23, Body 1.63 x 2.90 mm, Pitch 0.95 mm; RoHS: TRUE
footprint LT-S5-5-TSOT-23_N (SOT23, 5-Leads, Body 2.90x1.63mm, Pitch 0.95mm, IPC Medium Density)
footprint LT-S5-5-TSOT-23_L (SOT23, 5-Leads, Body 2.90x1.63mm, Pitch 0.95mm, IPC High Density)
footprint LT-S5-5-TSOT-23_M (SOT23, 5-Leads, Body 2.90x1.63mm, Pitch 0.95mm, IPC Low Density)
pins: 1 EN/UVLO (in) "Enable/Undervoltage Lockout. The EN/UVLO pin is used to enable the LT8300. Pull the pin below 0.3V to shut down the LT8300. This pin has an accurate 1.223V threshold and can be used to program a VIN undervoltage lockout (See Datasheet)", 2 GND (power) "Ground. Tie this pin directly to local ground plane.", 3 RFB (in) "Input Pin for External Feedback Resistor. Connect a resistor from this pin to the transformer primary SW pin. The ratio of the RFB resistor to the internal trimmed 12.23k resistor, times the internal bandgap reference, (See Datasheet)", 4 SW (power) "Drain of the 150V Internal DMOS Power Switch. Minimize trace area at this pin to reduce EMI and voltage spikes.", 5 VIN (power) "Input Supply. The VIN pin supplies current to internal circuitry and serves as a reference voltage for the feedback circuitry connected to the RFB pin. Locally bypass this pin to ground with a capacitor."

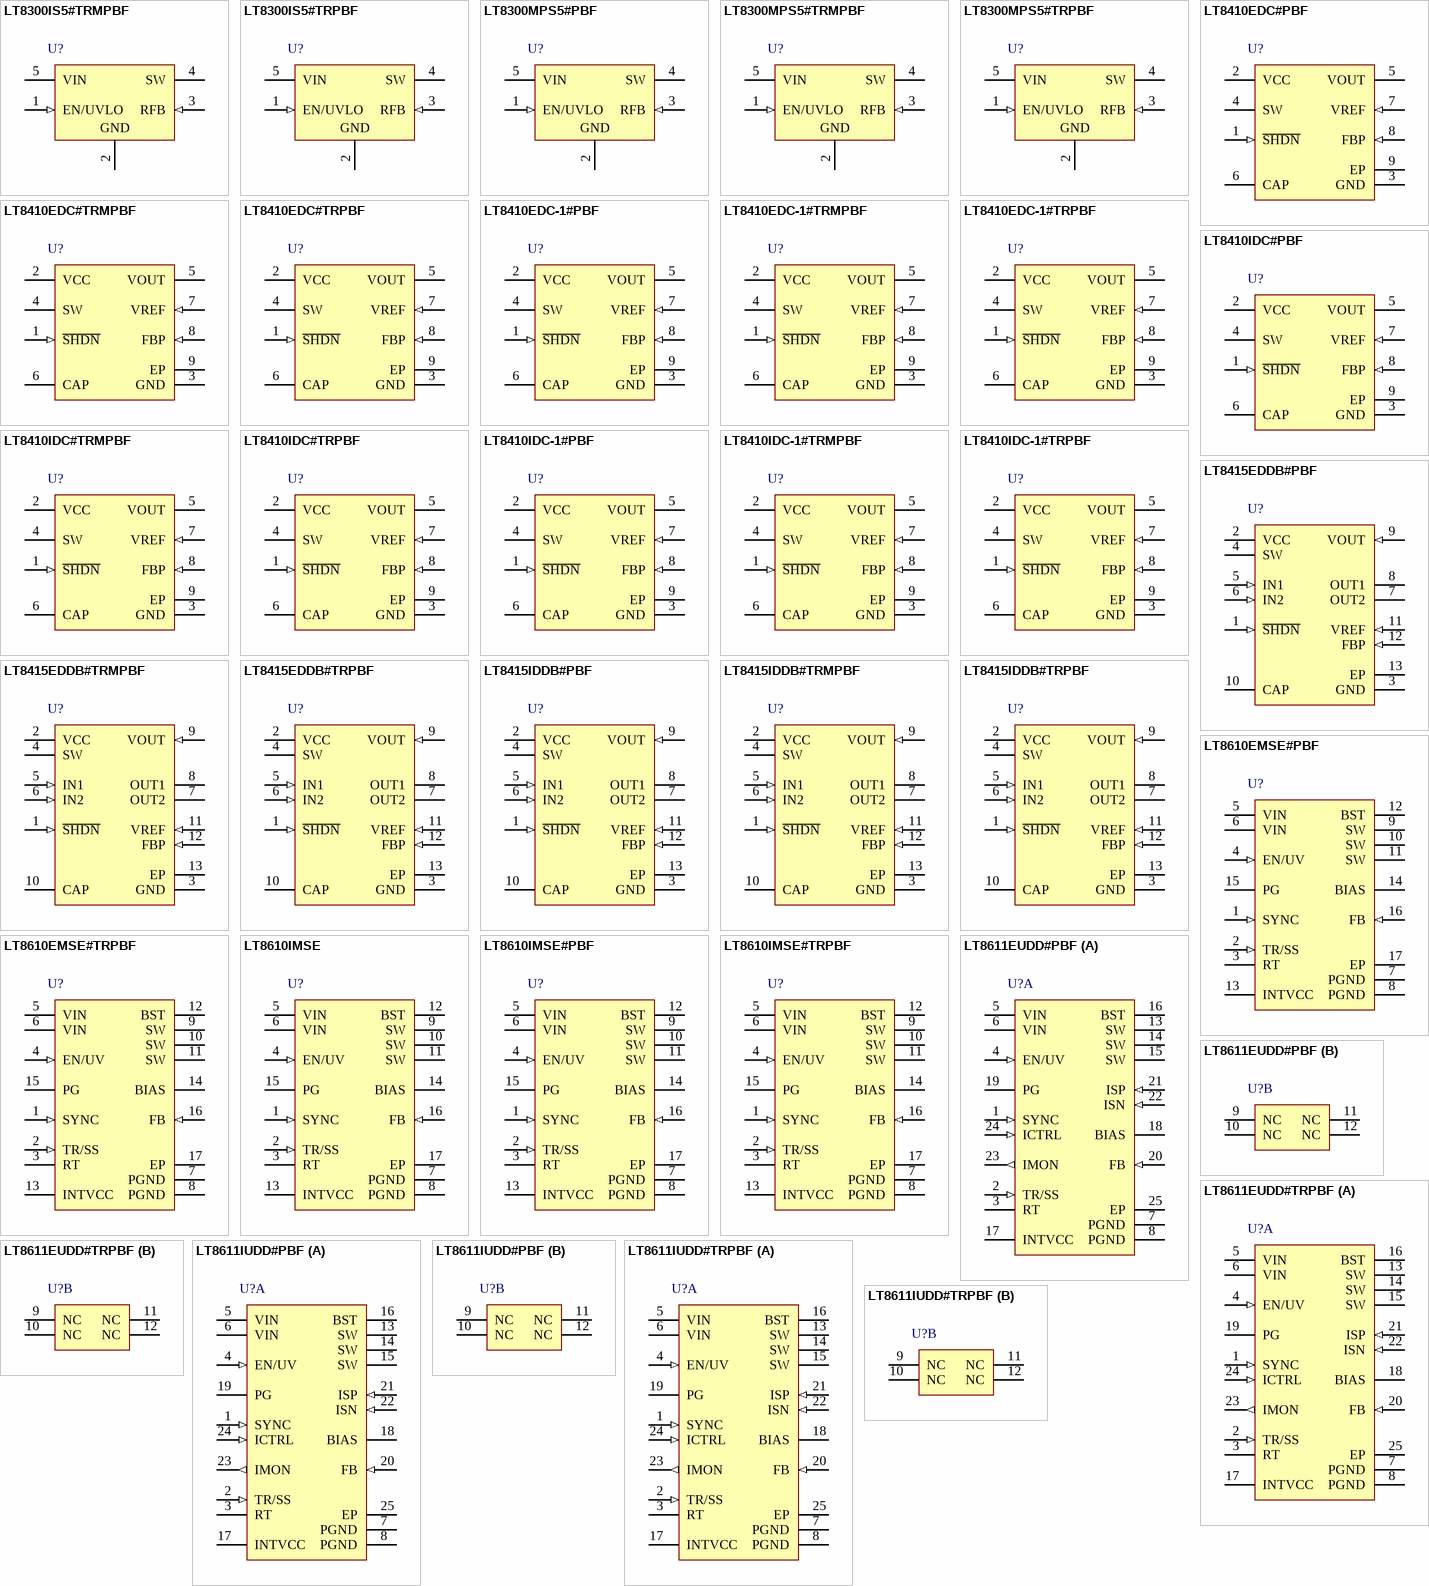
[diagram p70: symbols LT8300IS5#TRMPBF to LT8611IUDD#TRPBF]

## LT8300IS5#TRMPBF
designator U?
Micropower Isolated Flyback Converter with 150 V / 260 mA Switch, 5-pin SOT23 (S5-5), -40 to 125 degC, Pb-Free, Mini Tape and Reel; Manufacturer: Linear Technology; PartNumber: LT8300IS5#TRMPBF; Number of Outputs: 1; PackageReference: S5-5; PackageDescription: 5-Pin Plastic TSOT-23, Body 1.63 x 2.90 mm, Pitch 0.95 mm; Supplier 1: Digi-Key; Supplier Part Number 1: LT8300IS5#TRMPBFTR-ND; RoHS: TRUE
footprint LT-S5-5-TSOT-23_N (SOT23, 5-Leads, Body 2.90x1.63mm, Pitch 0.95mm, IPC Medium Density)
footprint LT-S5-5-TSOT-23_L (SOT23, 5-Leads, Body 2.90x1.63mm, Pitch 0.95mm, IPC High Density)
footprint LT-S5-5-TSOT-23_M (SOT23, 5-Leads, Body 2.90x1.63mm, Pitch 0.95mm, IPC Low Density)
pins: 1 EN/UVLO (in) "Enable/Undervoltage Lockout. The EN/UVLO pin is used to enable the LT8300. Pull the pin below 0.3V to shut down the LT8300. This pin has an accurate 1.223V threshold and can be used to program a VIN undervoltage lockout (See Datasheet)", 2 GND (power) "Ground. Tie this pin directly to local ground plane.", 3 RFB (in) "Input Pin for External Feedback Resistor. Connect a resistor from this pin to the transformer primary SW pin. The ratio of the RFB resistor to the internal trimmed 12.23k resistor, times the internal bandgap reference, (See Datasheet)", 4 SW (power) "Drain of the 150V Internal DMOS Power Switch. Minimize trace area at this pin to reduce EMI and voltage spikes.", 5 VIN (power) "Input Supply. The VIN pin supplies current to internal circuitry and serves as a reference voltage for the feedback circuitry connected to the RFB pin. Locally bypass this pin to ground with a capacitor."

## LT8300IS5#TRPBF
designator U?
Micropower Isolated Flyback Converter with 150 V / 260 mA Switch, 5-pin SOT23 (S5-5), -40 to 125 degC, Pb-Free, Tape and Reel; Manufacturer: Linear Technology; PartNumber: LT8300IS5#TRPBF; Number of Outputs: 1; PackageReference: S5-5; PackageDescription: 5-Pin Plastic TSOT-23, Body 1.63 x 2.90 mm, Pitch 0.95 mm; Supplier 1: Digi-Key; Supplier Part Number 1: LT8300IS5#TRPBF-ND; RoHS: TRUE
footprint LT-S5-5-TSOT-23_N (SOT23, 5-Leads, Body 2.90x1.63mm, Pitch 0.95mm, IPC Medium Density)
footprint LT-S5-5-TSOT-23_L (SOT23, 5-Leads, Body 2.90x1.63mm, Pitch 0.95mm, IPC High Density)
footprint LT-S5-5-TSOT-23_M (SOT23, 5-Leads, Body 2.90x1.63mm, Pitch 0.95mm, IPC Low Density)
pins: 1 EN/UVLO (in) "Enable/Undervoltage Lockout. The EN/UVLO pin is used to enable the LT8300. Pull the pin below 0.3V to shut down the LT8300. This pin has an accurate 1.223V threshold and can be used to program a VIN undervoltage lockout (See Datasheet)", 2 GND (power) "Ground. Tie this pin directly to local ground plane.", 3 RFB (in) "Input Pin for External Feedback Resistor. Connect a resistor from this pin to the transformer primary SW pin. The ratio of the RFB resistor to the internal trimmed 12.23k resistor, times the internal bandgap reference, (See Datasheet)", 4 SW (power) "Drain of the 150V Internal DMOS Power Switch. Minimize trace area at this pin to reduce EMI and voltage spikes.", 5 VIN (power) "Input Supply. The VIN pin supplies current to internal circuitry and serves as a reference voltage for the feedback circuitry connected to the RFB pin. Locally bypass this pin to ground with a capacitor."

## LT8300MPS5#PBF
designator U?
Micropower Isolated Flyback Converter with 150 V / 260 mA Switch, 5-pin SOT23 (S5-5), -55 to 150 degC, Pb-Free; Manufacturer: Linear Technology; PartNumber: LT8300MPS5#PBF; Number of Outputs: 1; PackageReference: S5-5; PackageDescription: 5-Pin Plastic TSOT-23, Body 1.63 x 2.90 mm, Pitch 0.95 mm; RoHS: TRUE
footprint LT-S5-5-TSOT-23_N (SOT23, 5-Leads, Body 2.90x1.63mm, Pitch 0.95mm, IPC Medium Density)
footprint LT-S5-5-TSOT-23_L (SOT23, 5-Leads, Body 2.90x1.63mm, Pitch 0.95mm, IPC High Density)
footprint LT-S5-5-TSOT-23_M (SOT23, 5-Leads, Body 2.90x1.63mm, Pitch 0.95mm, IPC Low Density)
pins: 1 EN/UVLO (in) "Enable/Undervoltage Lockout. The EN/UVLO pin is used to enable the LT8300. Pull the pin below 0.3V to shut down the LT8300. This pin has an accurate 1.223V threshold and can be used to program a VIN undervoltage lockout (See Datasheet)", 2 GND (power) "Ground. Tie this pin directly to local ground plane.", 3 RFB (in) "Input Pin for External Feedback Resistor. Connect a resistor from this pin to the transformer primary SW pin. The ratio of the RFB resistor to the internal trimmed 12.23k resistor, times the internal bandgap reference, (See Datasheet)", 4 SW (power) "Drain of the 150V Internal DMOS Power Switch. Minimize trace area at this pin to reduce EMI and voltage spikes.", 5 VIN (power) "Input Supply. The VIN pin supplies current to internal circuitry and serves as a reference voltage for the feedback circuitry connected to the RFB pin. Locally bypass this pin to ground with a capacitor."

## LT8300MPS5#TRMPBF
designator U?
Micropower Isolated Flyback Converter with 150 V / 260 mA Switch, 5-pin SOT23 (S5-5), -55 to 150 degC, Pb-Free, Mini Tape and Reel; Manufacturer: Linear Technology; PartNumber: LT8300MPS5#TRMPBF; Number of Outputs: 1; PackageReference: S5-5; PackageDescription: 5-Pin Plastic TSOT-23, Body 1.63 x 2.90 mm, Pitch 0.95 mm; Supplier 1: Digi-Key; Supplier Part Number 1: LT8300MPS5#TRMPBFTR-ND; RoHS: TRUE
footprint LT-S5-5-TSOT-23_N (SOT23, 5-Leads, Body 2.90x1.63mm, Pitch 0.95mm, IPC Medium Density)
footprint LT-S5-5-TSOT-23_L (SOT23, 5-Leads, Body 2.90x1.63mm, Pitch 0.95mm, IPC High Density)
footprint LT-S5-5-TSOT-23_M (SOT23, 5-Leads, Body 2.90x1.63mm, Pitch 0.95mm, IPC Low Density)
pins: 1 EN/UVLO (in) "Enable/Undervoltage Lockout. The EN/UVLO pin is used to enable the LT8300. Pull the pin below 0.3V to shut down the LT8300. This pin has an accurate 1.223V threshold and can be used to program a VIN undervoltage lockout (See Datasheet)", 2 GND (power) "Ground. Tie this pin directly to local ground plane.", 3 RFB (in) "Input Pin for External Feedback Resistor. Connect a resistor from this pin to the transformer primary SW pin. The ratio of the RFB resistor to the internal trimmed 12.23k resistor, times the internal bandgap reference, (See Datasheet)", 4 SW (power) "Drain of the 150V Internal DMOS Power Switch. Minimize trace area at this pin to reduce EMI and voltage spikes.", 5 VIN (power) "Input Supply. The VIN pin supplies current to internal circuitry and serves as a reference voltage for the feedback circuitry connected to the RFB pin. Locally bypass this pin to ground with a capacitor."

## LT8300MPS5#TRPBF
designator U?
Micropower Isolated Flyback Converter with 150 V / 260 mA Switch, 5-pin SOT23 (S5-5), -55 to 150 degC, Pb-Free, Tape and Reel; Manufacturer: Linear Technology; PartNumber: LT8300MPS5#TRPBF; Number of Outputs: 1; PackageReference: S5-5; PackageDescription: 5-Pin Plastic TSOT-23, Body 1.63 x 2.90 mm, Pitch 0.95 mm; Supplier 1: Digi-Key; Supplier Part Number 1: LT8300MPS5#TRPBF-ND; RoHS: TRUE
footprint LT-S5-5-TSOT-23_N (SOT23, 5-Leads, Body 2.90x1.63mm, Pitch 0.95mm, IPC Medium Density)
footprint LT-S5-5-TSOT-23_L (SOT23, 5-Leads, Body 2.90x1.63mm, Pitch 0.95mm, IPC High Density)
footprint LT-S5-5-TSOT-23_M (SOT23, 5-Leads, Body 2.90x1.63mm, Pitch 0.95mm, IPC Low Density)
pins: 1 EN/UVLO (in) "Enable/Undervoltage Lockout. The EN/UVLO pin is used to enable the LT8300. Pull the pin below 0.3V to shut down the LT8300. This pin has an accurate 1.223V threshold and can be used to program a VIN undervoltage lockout (See Datasheet)", 2 GND (power) "Ground. Tie this pin directly to local ground plane.", 3 RFB (in) "Input Pin for External Feedback Resistor. Connect a resistor from this pin to the transformer primary SW pin. The ratio of the RFB resistor to the internal trimmed 12.23k resistor, times the internal bandgap reference, (See Datasheet)", 4 SW (power) "Drain of the 150V Internal DMOS Power Switch. Minimize trace area at this pin to reduce EMI and voltage spikes.", 5 VIN (power) "Input Supply. The VIN pin supplies current to internal circuitry and serves as a reference voltage for the feedback circuitry connected to the RFB pin. Locally bypass this pin to ground with a capacitor."

## LT8410EDC#PBF
designator U?
Ultralow Power Boost Converter with Output Disconnect, 8-pin SON (DC8), -40 to 125 degC, Pb-Free; Manufacturer: Linear Technology; PartNumber: LT8410EDC#PBF; Number of Outputs: 1; PackageReference: DC8; PackageDescription: 8-Pin Plastic DFN, Body 2 x 2 mm, Pitch 0.45 mm; Supplier 1: Newark; Supplier Part Number 1: 78T4313; RoHS: TRUE
footprint LT-DC8_V (SON, 8-Leads, Body 2x2mm, Pitch 0.45mm, Thermal Pad 1.37x0.64mm, Recommended)
pins: 1 ~{SHDN} (in) "Shutdown Pin. This pin is used to enable/disable the chip. Drive below 0.3V to disable the chip. Drive above 1.45V to activate the chip. Do not float this pin.", 2 VCC (power) "Input Supply Pin. Must be locally bypassed to GND. See the Typical Applications section.", 3 GND (power) "Ground. Tie directly to local ground plane.", 4 SW "Switch Pin. This is the collector of the internal NPN power switch. Minimize the metal trace area connected to this pin to minimize EMI.", 5 VOUT (power) "Drain of Output Disconnect PMOS. Place a bypass capacitor from this pin to GND.", 6 CAP "Cathode of the Internal Schottky Diode. Place a bypass capacitor from this pin to GND.", 7 VREF (in) "Reference Pin. Soft-start can be achieved by placing a capacitor from this pin to GND. This cap will be discharged for 70us (typical) at the beginning of start-up and then be charged to 1.235V with a 10uA current source.", 8 FBP (in) "Positive Feedback Pin. This pin is the error amplifier’s positive input terminal. To achieve the desired output voltage, choose the FBP pin voltage (VFBP) according to the following formula: VFBP=VOUT/31.85, For protectio(See Datasheet)", 9 EP (power) "Pin 9 is floating but must be grounded for proper shielding."

## LT8410EDC#TRMPBF
designator U?
Ultralow Power Boost Converter with Output Disconnect, 8-pin SON (DC8), -40 to 125 degC, Pb-Free, Mini Tape and Reel; Manufacturer: Linear Technology; PartNumber: LT8410EDC#TRMPBF; Number of Outputs: 1; PackageReference: DC8; PackageDescription: 8-Pin Plastic DFN, Body 2 x 2 mm, Pitch 0.45 mm; Supplier 1: Digi-Key; Supplier Part Number 1: LT8410EDC#TRMPBFTR-ND; RoHS: TRUE
footprint LT-DC8_V (SON, 8-Leads, Body 2x2mm, Pitch 0.45mm, Thermal Pad 1.37x0.64mm, Recommended)
pins: 1 ~{SHDN} (in) "Shutdown Pin. This pin is used to enable/disable the chip. Drive below 0.3V to disable the chip. Drive above 1.45V to activate the chip. Do not float this pin.", 2 VCC (power) "Input Supply Pin. Must be locally bypassed to GND. See the Typical Applications section.", 3 GND (power) "Ground. Tie directly to local ground plane.", 4 SW "Switch Pin. This is the collector of the internal NPN power switch. Minimize the metal trace area connected to this pin to minimize EMI.", 5 VOUT (power) "Drain of Output Disconnect PMOS. Place a bypass capacitor from this pin to GND.", 6 CAP "Cathode of the Internal Schottky Diode. Place a bypass capacitor from this pin to GND.", 7 VREF (in) "Reference Pin. Soft-start can be achieved by placing a capacitor from this pin to GND. This cap will be discharged for 70us (typical) at the beginning of start-up and then be charged to 1.235V with a 10uA current source.", 8 FBP (in) "Positive Feedback Pin. This pin is the error amplifier’s positive input terminal. To achieve the desired output voltage, choose the FBP pin voltage (VFBP) according to the following formula: VFBP=VOUT/31.85, For protectio(See Datasheet)", 9 EP (power) "Pin 9 is floating but must be grounded for proper shielding."